# Altium footprint library BitCoin.PcbLib: 13 footprints (part 1 of 2)
Each footprint in its own frame and in the unit in brackets; x right, y up, seen from the top. Pads: shape width x height; smd on the part's side, far side on the other; paste and mask are expansions set on the pad; w line width, h text height; cw(c..) or ccw(c..) is an arc to the next point about the centre after c.
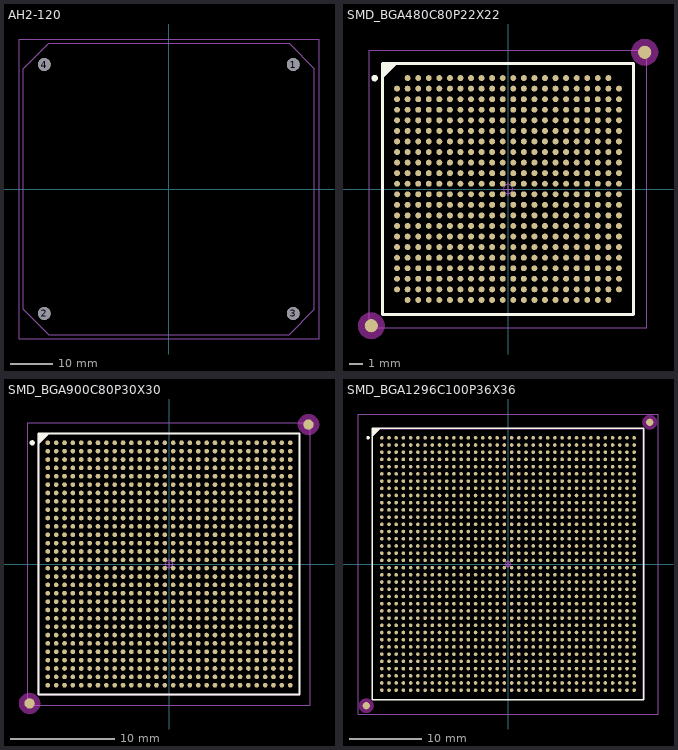
[diagram p0: the footprints below, top view; thin cyan lines are the x and y axes]

## AH2-120 [mm]
pads (4):
  round 3 / inner round 1.8 / far side round 1.8 hole 3 mask+0.075: 1(29.5,29.5) 2(-29.5,-29.5) 3(29.5,-29.5) 4(-29.5,29.5)
Top Assy:
  lines w0.1: -34.5,-28.5 -28.5,-34.5 28.5,-34.5 34.5,-28.5 34.5,28.5 28.5,34.5 -28.5,34.5 -34.5,28.5 -34.5,-28.5
Top Cortyards:
  lines w0.1: -35.5,-35.5 35.6,-35.5 35.6,35.5 -35.5,35.5 -35.5,-35.5

## SMD_BGA480C80P22X22 [mm]
height 2.59
pads (482):
  round 0.45 smd: A2(-7.6,8.4) A3(-6.8,8.4) A4(-6,8.4) A5(-5.2,8.4) A6(-4.4,8.4) A7(-3.6,8.4) A8(-2.8,8.4) A9(-2,8.4) A10(-1.2,8.4) A11(-0.4,8.4) A12(0.4,8.4) A13(1.2,8.4) A14(2,8.4) A15(2.8,8.4) A16(3.6,8.4) A17(4.4,8.4) A18(5.2,8.4) A19(6,8.4) A20(6.8,8.4) A21(7.6,8.4) AA1(-8.4,-7.6) AA2(-7.6,-7.6) AA3(-6.8,-7.6) AA4(-6,-7.6) AA5(-5.2,-7.6) AA6(-4.4,-7.6) AA7(-3.6,-7.6) AA8(-2.8,-7.6) AA9(-2,-7.6) AA10(-1.2,-7.6) AA11(-0.4,-7.6) AA12(0.4,-7.6) AA13(1.2,-7.6) AA14(2,-7.6) AA15(2.8,-7.6) AA16(3.6,-7.6) AA17(4.4,-7.6) AA18(5.2,-7.6) AA19(6,-7.6) AA20(6.8,-7.6) AA21(7.6,-7.6) AA22(8.4,-7.6) AB2(-7.6,-8.4) AB3(-6.8,-8.4) AB4(-6,-8.4) AB5(-5.2,-8.4) AB6(-4.4,-8.4) AB7(-3.6,-8.4) AB8(-2.8,-8.4) AB9(-2,-8.4) AB10(-1.2,-8.4) AB11(-0.4,-8.4) AB12(0.4,-8.4) AB13(1.2,-8.4) AB14(2,-8.4) AB15(2.8,-8.4) AB16(3.6,-8.4) AB17(4.4,-8.4) AB18(5.2,-8.4) AB19(6,-8.4) AB20(6.8,-8.4) AB21(7.6,-8.4) B1(-8.4,7.6) B2(-7.6,7.6) B3(-6.8,7.6) B4(-6,7.6) B5(-5.2,7.6) B6(-4.4,7.6) B7(-3.6,7.6) B8(-2.8,7.6) B9(-2,7.6) B10(-1.2,7.6) B11(-0.4,7.6) B12(0.4,7.6) B13(1.2,7.6) B14(2,7.6) B15(2.8,7.6) B16(3.6,7.6) B17(4.4,7.6) B18(5.2,7.6) B19(6,7.6) B20(6.8,7.6) B21(7.6,7.6) B22(8.4,7.6) C1(-8.4,6.8) C2(-7.6,6.8) C3(-6.8,6.8) C4(-6,6.8) C5(-5.2,6.8) C6(-4.4,6.8) C7(-3.6,6.8) C8(-2.8,6.8) C9(-2,6.8) C10(-1.2,6.8) C11(-0.4,6.8) C12(0.4,6.8) C13(1.2,6.8) C14(2,6.8) C15(2.8,6.8) C16(3.6,6.8) C17(4.4,6.8) C18(5.2,6.8) C19(6,6.8) C20(6.8,6.8) C21(7.6,6.8) C22(8.4,6.8) D1(-8.4,6) D2(-7.6,6) D3(-6.8,6) D4(-6,6) D5(-5.2,6) D6(-4.4,6) D7(-3.6,6) D8(-2.8,6) D9(-2,6) D10(-1.2,6) D11(-0.4,6) D12(0.4,6) D13(1.2,6) D14(2,6) D15(2.8,6) D16(3.6,6) D17(4.4,6) D18(5.2,6) D19(6,6) D20(6.8,6) D21(7.6,6) D22(8.4,6) E1(-8.4,5.2) E2(-7.6,5.2) E3(-6.8,5.2) E4(-6,5.2) E5(-5.2,5.2) E6(-4.4,5.2) E7(-3.6,5.2) E8(-2.8,5.2) E9(-2,5.2) E10(-1.2,5.2) E11(-0.4,5.2) E12(0.4,5.2) E13(1.2,5.2) E14(2,5.2) E15(2.8,5.2) E16(3.6,5.2) E17(4.4,5.2) E18(5.2,5.2) E19(6,5.2) E20(6.8,5.2) E21(7.6,5.2) E22(8.4,5.2) F1(-8.4,4.4) F2(-7.6,4.4) F3(-6.8,4.4) F4(-6,4.4) F5(-5.2,4.4) F6(-4.4,4.4) F7(-3.6,4.4) F8(-2.8,4.4) F9(-2,4.4) F10(-1.2,4.4) F11(-0.4,4.4) F12(0.4,4.4) F13(1.2,4.4) F14(2,4.4) F15(2.8,4.4) F16(3.6,4.4) F17(4.4,4.4) F18(5.2,4.4) F19(6,4.4) F20(6.8,4.4) F21(7.6,4.4) F22(8.4,4.4) G1(-8.4,3.6) G2(-7.6,3.6) G3(-6.8,3.6) G4(-6,3.6) G5(-5.2,3.6) G6(-4.4,3.6) G7(-3.6,3.6) G8(-2.8,3.6) G9(-2,3.6) G10(-1.2,3.6) G11(-0.4,3.6) G12(0.4,3.6) G13(1.2,3.6) G14(2,3.6) G15(2.8,3.6) G16(3.6,3.6) G17(4.4,3.6) G18(5.2,3.6) G19(6,3.6) G20(6.8,3.6) G21(7.6,3.6) G22(8.4,3.6) H1(-8.4,2.8) H2(-7.6,2.8) H3(-6.8,2.8) H4(-6,2.8) H5(-5.2,2.8) H6(-4.4,2.8) H7(-3.6,2.8) H8(-2.8,2.8) H9(-2,2.8) H10(-1.2,2.8) H11(-0.4,2.8) H12(0.4,2.8) H13(1.2,2.8) H14(2,2.8) H15(2.8,2.8) H16(3.6,2.8) H17(4.4,2.8) H18(5.2,2.8) H19(6,2.8) H20(6.8,2.8) H21(7.6,2.8) H22(8.4,2.8) J1(-8.4,2) J2(-7.6,2) J3(-6.8,2) J4(-6,2) J5(-5.2,2) J6(-4.4,2) J7(-3.6,2) J8(-2.8,2) J9(-2,2) J10(-1.2,2) J11(-0.4,2) J12(0.4,2) J13(1.2,2) J14(2,2) J15(2.8,2) J16(3.6,2) J17(4.4,2) J18(5.2,2) J19(6,2) J20(6.8,2) J21(7.6,2) J22(8.4,2) K1(-8.4,1.2) K2(-7.6,1.2) K3(-6.8,1.2) K4(-6,1.2) K5(-5.2,1.2) K6(-4.4,1.2) K7(-3.6,1.2) K8(-2.8,1.2) K9(-2,1.2) K10(-1.2,1.2) K11(-0.4,1.2) K12(0.4,1.2) K13(1.2,1.2) K14(2,1.2) K15(2.8,1.2) K16(3.6,1.2) K17(4.4,1.2) K18(5.2,1.2) K19(6,1.2) K20(6.8,1.2) K21(7.6,1.2) K22(8.4,1.2) L1(-8.4,0.4) L2(-7.6,0.4) L3(-6.8,0.4) L4(-6,0.4) L5(-5.2,0.4) L6(-4.4,0.4) L7(-3.6,0.4) L8(-2.8,0.4) L9(-2,0.4) L10(-1.2,0.4) L11(-0.4,0.4) L12(0.4,0.4) L13(1.2,0.4) L14(2,0.4) L15(2.8,0.4) L16(3.6,0.4) L17(4.4,0.4) L18(5.2,0.4) L19(6,0.4) L20(6.8,0.4) L21(7.6,0.4) L22(8.4,0.4) M1(-8.4,-0.4) M2(-7.6,-0.4) M3(-6.8,-0.4) M4(-6,-0.4) M5(-5.2,-0.4) M6(-4.4,-0.4) M7(-3.6,-0.4) M8(-2.8,-0.4) M9(-2,-0.4) M10(-1.2,-0.4) M11(-0.4,-0.4) M12(0.4,-0.4) M13(1.2,-0.4) M14(2,-0.4) M15(2.8,-0.4) M16(3.6,-0.4) M17(4.4,-0.4) M18(5.2,-0.4) M19(6,-0.4) M20(6.8,-0.4) M21(7.6,-0.4) M22(8.4,-0.4) N1(-8.4,-1.2) N2(-7.6,-1.2) N3(-6.8,-1.2) N4(-6,-1.2) N5(-5.2,-1.2) N6(-4.4,-1.2) N7(-3.6,-1.2) N8(-2.8,-1.2) N9(-2,-1.2) N10(-1.2,-1.2) N11(-0.4,-1.2) N12(0.4,-1.2) N13(1.2,-1.2) N14(2,-1.2) N15(2.8,-1.2) N16(3.6,-1.2) N17(4.4,-1.2) N18(5.2,-1.2) N19(6,-1.2) N20(6.8,-1.2) N21(7.6,-1.2) N22(8.4,-1.2) P1(-8.4,-2) P2(-7.6,-2) P3(-6.8,-2) P4(-6,-2) P5(-5.2,-2) P6(-4.4,-2) P7(-3.6,-2) P8(-2.8,-2) P9(-2,-2) P10(-1.2,-2) P11(-0.4,-2) P12(0.4,-2) P13(1.2,-2) P14(2,-2) P15(2.8,-2) P16(3.6,-2) P17(4.4,-2) P18(5.2,-2) P19(6,-2) P20(6.8,-2) P21(7.6,-2) P22(8.4,-2) R1(-8.4,-2.8) R2(-7.6,-2.8) R3(-6.8,-2.8) R4(-6,-2.8) R5(-5.2,-2.8) R6(-4.4,-2.8) R7(-3.6,-2.8) R8(-2.8,-2.8) R9(-2,-2.8) R10(-1.2,-2.8) R11(-0.4,-2.8) R12(0.4,-2.8) R13(1.2,-2.8) R14(2,-2.8) R15(2.8,-2.8) R16(3.6,-2.8) R17(4.4,-2.8) R18(5.2,-2.8) R19(6,-2.8) R20(6.8,-2.8) R21(7.6,-2.8) R22(8.4,-2.8) T1(-8.4,-3.6) T2(-7.6,-3.6) T3(-6.8,-3.6) T4(-6,-3.6) T5(-5.2,-3.6) T6(-4.4,-3.6) T7(-3.6,-3.6) T8(-2.8,-3.6) T9(-2,-3.6) T10(-1.2,-3.6) T11(-0.4,-3.6) T12(0.4,-3.6) T13(1.2,-3.6) T14(2,-3.6) T15(2.8,-3.6) T16(3.6,-3.6) T17(4.4,-3.6) T18(5.2,-3.6) T19(6,-3.6) T20(6.8,-3.6) T21(7.6,-3.6) T22(8.4,-3.6) U1(-8.4,-4.4) U2(-7.6,-4.4) U3(-6.8,-4.4) U4(-6,-4.4) U5(-5.2,-4.4) U6(-4.4,-4.4) U7(-3.6,-4.4) U8(-2.8,-4.4) U9(-2,-4.4) U10(-1.2,-4.4) U11(-0.4,-4.4) U12(0.4,-4.4) U13(1.2,-4.4) U14(2,-4.4) U15(2.8,-4.4) U16(3.6,-4.4) U17(4.4,-4.4) U18(5.2,-4.4) U19(6,-4.4) U20(6.8,-4.4) U21(7.6,-4.4) U22(8.4,-4.4) V1(-8.4,-5.2) V2(-7.6,-5.2) V3(-6.8,-5.2) V4(-6,-5.2) V5(-5.2,-5.2) V6(-4.4,-5.2) V7(-3.6,-5.2) V8(-2.8,-5.2) V9(-2,-5.2) V10(-1.2,-5.2) V11(-0.4,-5.2) V12(0.4,-5.2) V13(1.2,-5.2) V14(2,-5.2) V15(2.8,-5.2) V16(3.6,-5.2) V17(4.4,-5.2) V18(5.2,-5.2) V19(6,-5.2) V20(6.8,-5.2) V21(7.6,-5.2) V22(8.4,-5.2) W1(-8.4,-6) W2(-7.6,-6) W3(-6.8,-6) W4(-6,-6) W5(-5.2,-6) W6(-4.4,-6) W7(-3.6,-6) W8(-2.8,-6) W9(-2,-6) W10(-1.2,-6) W11(-0.4,-6) W12(0.4,-6) W13(1.2,-6) W14(2,-6) W15(2.8,-6) W16(3.6,-6) W17(4.4,-6) W18(5.2,-6) W19(6,-6) W20(6.8,-6) W21(7.6,-6) W22(8.4,-6) Y1(-8.4,-6.8) Y2(-7.6,-6.8) Y3(-6.8,-6.8) Y4(-6,-6.8) Y5(-5.2,-6.8) Y6(-4.4,-6.8) Y7(-3.6,-6.8) Y8(-2.8,-6.8) Y9(-2,-6.8) Y10(-1.2,-6.8) Y11(-0.4,-6.8) Y12(0.4,-6.8) Y13(1.2,-6.8) Y14(2,-6.8) Y15(2.8,-6.8) Y16(3.6,-6.8) Y17(4.4,-6.8) Y18(5.2,-6.8) Y19(6,-6.8) Y20(6.8,-6.8) Y21(7.6,-6.8) Y22(8.4,-6.8)
  round 1 smd mask+0.5: FID1(-10.35,-10.35) FID2(10.35,10.35)
Top Layer keep-out:
  region: -9.341,-10.35 -9.376,-10.089 -9.477,-9.846 -9.637,-9.637 -9.846,-9.477 -10.089,-9.376 -10.35,-9.341 -10.611,-9.376 -10.854,-9.477 -11.063,-9.637 -11.223,-9.846 -11.324,-10.089 -11.359,-10.35 -11.324,-10.611 -11.223,-10.854 -11.063,-11.063 -10.854,-11.223 -10.611,-11.324 -10.35,-11.359 -10.089,-11.324 -9.846,-11.223 -9.637,-11.063 -9.477,-10.854 -9.376,-10.611
  region: 11.359,10.35 11.324,10.611 11.223,10.854 11.063,11.063 10.854,11.223 10.611,11.324 10.35,11.359 10.089,11.324 9.846,11.223 9.637,11.063 9.477,10.854 9.376,10.611 9.341,10.35 9.376,10.089 9.477,9.846 9.637,9.637 9.846,9.477 10.089,9.376 10.35,9.341 10.611,9.376 10.854,9.477 11.063,9.637 11.223,9.846 11.324,10.089
Top Overlay:
  circle w0.25: c-10.1,8.4 r0.125
  lines w0.2: -9.5,8.5 -8.5,9.5 ; -9.5,8.7 -8.7,9.5 ; -9.5,8.9 -8.9,9.5 ; -9.5,9.1 -9.1,9.5 ; -9.5,9.3 -9.3,9.5 ; -9.5,-9.5 -9.5,9.5 9.5,9.5 9.5,-9.5 -9.5,-9.5
Top Assy:
  lines w0.1: -9.5,8.5 -8.5,9.5 ; -9.5,8.6 -8.6,9.5 ; -9.5,8.7 -8.7,9.5 ; -9.5,8.8 -8.8,9.5 ; -9.5,8.9 -8.9,9.5 ; -9.5,9 -9,9.5 ; -9.5,9.1 -9.1,9.5 ; -9.5,9.2 -9.2,9.5 ; -9.5,9.3 -9.3,9.5 ; -9.5,9.4 -9.4,9.5 ; -9.5,-9.5 -9.5,9.5 9.5,9.5 9.5,-9.5 -9.5,-9.5
  text ".Designator" at 0,0 h1
Top 3D:
  lines w0.05: -9.5,-9.5 -9.5,9.5 9.5,9.5 9.5,-9.5 -9.5,-9.5
Top Cortyards:
  circle w0.05: c0,0 r0.35
  lines w0.05: -0.5,0 0.5,0 ; 0,-0.5 0,0.5 ; -10.5,-10.5 -10.5,10.5 10.5,10.5 10.5,-10.5 -10.5,-10.5
3D body: height 2.59, standoff 0, extent -9.499,-9.499 9.499,9.499

## SMD_BGA900C80P30X30 [mm]
height 2.4
pads (902):
  round 0.45 smd mask+0.05: A1(-11.6,11.6) A2(-10.8,11.6) A3(-10,11.6) A4(-9.2,11.6) A5(-8.4,11.6) A6(-7.6,11.6) A7(-6.8,11.6) A8(-6,11.6) A9(-5.2,11.6) A10(-4.4,11.6) A11(-3.6,11.6) A12(-2.8,11.6) A13(-2,11.6) A14(-1.2,11.6) A15(-0.4,11.6) A16(0.4,11.6) A17(1.2,11.6) A18(2,11.6) A19(2.8,11.6) A20(3.6,11.6) A21(4.4,11.6) A22(5.2,11.6) A23(6,11.6) A24(6.8,11.6) A25(7.6,11.6) A26(8.4,11.6) A27(9.2,11.6) A28(10,11.6) A29(10.8,11.6) A30(11.6,11.6) AA1(-11.6,-4.4) AA2(-10.8,-4.4) AA3(-10,-4.4) AA4(-9.2,-4.4) AA5(-8.4,-4.4) AA6(-7.6,-4.4) AA7(-6.8,-4.4) AA8(-6,-4.4) AA9(-5.2,-4.4) AA10(-4.4,-4.4) AA11(-3.6,-4.4) AA12(-2.8,-4.4) AA13(-2,-4.4) AA14(-1.2,-4.4) AA15(-0.4,-4.4) AA16(0.4,-4.4) AA17(1.2,-4.4) AA18(2,-4.4) AA19(2.8,-4.4) AA20(3.6,-4.4) AA21(4.4,-4.4) AA22(5.2,-4.4) AA23(6,-4.4) AA24(6.8,-4.4) AA25(7.6,-4.4) AA26(8.4,-4.4) AA27(9.2,-4.4) AA28(10,-4.4) AA29(10.8,-4.4) AA30(11.6,-4.4) AB1(-11.6,-5.2) AB2(-10.8,-5.2) AB3(-10,-5.2) AB4(-9.2,-5.2) AB5(-8.4,-5.2) AB6(-7.6,-5.2) AB7(-6.8,-5.2) AB8(-6,-5.2) AB9(-5.2,-5.2) AB10(-4.4,-5.2) AB11(-3.6,-5.2) AB12(-2.8,-5.2) AB13(-2,-5.2) AB14(-1.2,-5.2) AB15(-0.4,-5.2) AB16(0.4,-5.2) AB17(1.2,-5.2) AB18(2,-5.2) AB19(2.8,-5.2) AB20(3.6,-5.2) AB21(4.4,-5.2) AB22(5.2,-5.2) AB23(6,-5.2) AB24(6.8,-5.2) AB25(7.6,-5.2) AB26(8.4,-5.2) AB27(9.2,-5.2) AB28(10,-5.2) AB29(10.8,-5.2) AB30(11.6,-5.2) AC1(-11.6,-6) AC2(-10.8,-6) AC3(-10,-6) AC4(-9.2,-6) AC5(-8.4,-6) AC6(-7.6,-6) AC7(-6.8,-6) AC8(-6,-6) AC9(-5.2,-6) AC10(-4.4,-6) AC11(-3.6,-6) AC12(-2.8,-6) AC13(-2,-6) AC14(-1.2,-6) AC15(-0.4,-6) AC16(0.4,-6) AC17(1.2,-6) AC18(2,-6) AC19(2.8,-6) AC20(3.6,-6) AC21(4.4,-6) AC22(5.2,-6) AC23(6,-6) AC24(6.8,-6) AC25(7.6,-6) AC26(8.4,-6) AC27(9.2,-6) AC28(10,-6) AC29(10.8,-6) AC30(11.6,-6) AD1(-11.6,-6.8) AD2(-10.8,-6.8) AD3(-10,-6.8) AD4(-9.2,-6.8) AD5(-8.4,-6.8) AD6(-7.6,-6.8) AD7(-6.8,-6.8) AD8(-6,-6.8) AD9(-5.2,-6.8) AD10(-4.4,-6.8) AD11(-3.6,-6.8) AD12(-2.8,-6.8) AD13(-2,-6.8) AD14(-1.2,-6.8) AD15(-0.4,-6.8) AD16(0.4,-6.8) AD17(1.2,-6.8) AD18(2,-6.8) AD19(2.8,-6.8) AD20(3.6,-6.8) AD21(4.4,-6.8) AD22(5.2,-6.8) AD23(6,-6.8) AD24(6.8,-6.8) AD25(7.6,-6.8) AD26(8.4,-6.8) AD27(9.2,-6.8) AD28(10,-6.8) AD29(10.8,-6.8) AD30(11.6,-6.8) AE1(-11.6,-7.6) AE2(-10.8,-7.6) AE3(-10,-7.6) AE4(-9.2,-7.6) AE5(-8.4,-7.6) AE6(-7.6,-7.6) AE7(-6.8,-7.6) AE8(-6,-7.6) AE9(-5.2,-7.6) AE10(-4.4,-7.6) AE11(-3.6,-7.6) AE12(-2.8,-7.6) AE13(-2,-7.6) AE14(-1.2,-7.6) AE15(-0.4,-7.6) AE16(0.4,-7.6) AE17(1.2,-7.6) AE18(2,-7.6) AE19(2.8,-7.6) AE20(3.6,-7.6) AE21(4.4,-7.6) AE22(5.2,-7.6) AE23(6,-7.6) AE24(6.8,-7.6) AE25(7.6,-7.6) AE26(8.4,-7.6) AE27(9.2,-7.6) AE28(10,-7.6) AE29(10.8,-7.6) AE30(11.6,-7.6) AF1(-11.6,-8.4) AF2(-10.8,-8.4) AF3(-10,-8.4) AF4(-9.2,-8.4) AF5(-8.4,-8.4) AF6(-7.6,-8.4) AF7(-6.8,-8.4) AF8(-6,-8.4) AF9(-5.2,-8.4) AF10(-4.4,-8.4) AF11(-3.6,-8.4) AF12(-2.8,-8.4) AF13(-2,-8.4) AF14(-1.2,-8.4) AF15(-0.4,-8.4) AF16(0.4,-8.4) AF17(1.2,-8.4) AF18(2,-8.4) AF19(2.8,-8.4) AF20(3.6,-8.4) AF21(4.4,-8.4) AF22(5.2,-8.4) AF23(6,-8.4) AF24(6.8,-8.4) AF25(7.6,-8.4) AF26(8.4,-8.4) AF27(9.2,-8.4) AF28(10,-8.4) AF29(10.8,-8.4) AF30(11.6,-8.4) AG1(-11.6,-9.2) AG2(-10.8,-9.2) AG3(-10,-9.2) AG4(-9.2,-9.2) AG5(-8.4,-9.2) AG6(-7.6,-9.2) AG7(-6.8,-9.2) AG8(-6,-9.2) AG9(-5.2,-9.2) AG10(-4.4,-9.2) AG11(-3.6,-9.2) AG12(-2.8,-9.2) AG13(-2,-9.2) AG14(-1.2,-9.2) AG15(-0.4,-9.2) AG16(0.4,-9.2) AG17(1.2,-9.2) AG18(2,-9.2) AG19(2.8,-9.2) AG20(3.6,-9.2) AG21(4.4,-9.2) AG22(5.2,-9.2) AG23(6,-9.2) AG24(6.8,-9.2) AG25(7.6,-9.2) AG26(8.4,-9.2) AG27(9.2,-9.2) AG28(10,-9.2) AG29(10.8,-9.2) AG30(11.6,-9.2) AH1(-11.6,-10) AH2(-10.8,-10) AH3(-10,-10) AH4(-9.2,-10) AH5(-8.4,-10) AH6(-7.6,-10) AH7(-6.8,-10) AH8(-6,-10) AH9(-5.2,-10) AH10(-4.4,-10) AH11(-3.6,-10) AH12(-2.8,-10) AH13(-2,-10) AH14(-1.2,-10) AH15(-0.4,-10) AH16(0.4,-10) AH17(1.2,-10) AH18(2,-10) AH19(2.8,-10) AH20(3.6,-10) AH21(4.4,-10) AH22(5.2,-10) AH23(6,-10) AH24(6.8,-10) AH25(7.6,-10) AH26(8.4,-10) AH27(9.2,-10) AH28(10,-10) AH29(10.8,-10) AH30(11.6,-10) AJ1(-11.6,-10.8) AJ2(-10.8,-10.8) AJ3(-10,-10.8) AJ4(-9.2,-10.8) AJ5(-8.4,-10.8) AJ6(-7.6,-10.8) AJ7(-6.8,-10.8) AJ8(-6,-10.8) AJ9(-5.2,-10.8) AJ10(-4.4,-10.8) AJ11(-3.6,-10.8) AJ12(-2.8,-10.8) AJ13(-2,-10.8) AJ14(-1.2,-10.8) AJ15(-0.4,-10.8) AJ16(0.4,-10.8) AJ17(1.2,-10.8) AJ18(2,-10.8) AJ19(2.8,-10.8) AJ20(3.6,-10.8) AJ21(4.4,-10.8) AJ22(5.2,-10.8) AJ23(6,-10.8) AJ24(6.8,-10.8) AJ25(7.6,-10.8) AJ26(8.4,-10.8) AJ27(9.2,-10.8) AJ28(10,-10.8) AJ29(10.8,-10.8) AJ30(11.6,-10.8) AK1(-11.6,-11.6) AK2(-10.8,-11.6) AK3(-10,-11.6) AK4(-9.2,-11.6) AK5(-8.4,-11.6) AK6(-7.6,-11.6) AK7(-6.8,-11.6) AK8(-6,-11.6) AK9(-5.2,-11.6) AK10(-4.4,-11.6) AK11(-3.6,-11.6) AK12(-2.8,-11.6) AK13(-2,-11.6) AK14(-1.2,-11.6) AK15(-0.4,-11.6) AK16(0.4,-11.6) AK17(1.2,-11.6) AK18(2,-11.6) AK19(2.8,-11.6) AK20(3.6,-11.6) AK21(4.4,-11.6) AK22(5.2,-11.6) AK23(6,-11.6) AK24(6.8,-11.6) AK25(7.6,-11.6) AK26(8.4,-11.6) AK27(9.2,-11.6) AK28(10,-11.6) AK29(10.8,-11.6) AK30(11.6,-11.6) B1(-11.6,10.8) B2(-10.8,10.8) B3(-10,10.8) B4(-9.2,10.8) B5(-8.4,10.8) B6(-7.6,10.8) B7(-6.8,10.8) B8(-6,10.8) B9(-5.2,10.8) B10(-4.4,10.8) B11(-3.6,10.8) B12(-2.8,10.8) B13(-2,10.8) B14(-1.2,10.8) B15(-0.4,10.8) B16(0.4,10.8) B17(1.2,10.8) B18(2,10.8) B19(2.8,10.8) B20(3.6,10.8) B21(4.4,10.8) B22(5.2,10.8) B23(6,10.8) B24(6.8,10.8) B25(7.6,10.8) B26(8.4,10.8) B27(9.2,10.8) B28(10,10.8) B29(10.8,10.8) B30(11.6,10.8) C1(-11.6,10) C2(-10.8,10) C3(-10,10) C4(-9.2,10) C5(-8.4,10) C6(-7.6,10) C7(-6.8,10) C8(-6,10) C9(-5.2,10) C10(-4.4,10) C11(-3.6,10) C12(-2.8,10) C13(-2,10) C14(-1.2,10) C15(-0.4,10) C16(0.4,10) C17(1.2,10) C18(2,10) C19(2.8,10) C20(3.6,10) C21(4.4,10) C22(5.2,10) C23(6,10) C24(6.8,10) C25(7.6,10) C26(8.4,10) C27(9.2,10) C28(10,10) C29(10.8,10) C30(11.6,10) D1(-11.6,9.2) D2(-10.8,9.2) D3(-10,9.2) D4(-9.2,9.2) D5(-8.4,9.2) D6(-7.6,9.2) D7(-6.8,9.2) D8(-6,9.2) D9(-5.2,9.2) D10(-4.4,9.2) D11(-3.6,9.2) D12(-2.8,9.2) D13(-2,9.2) D14(-1.2,9.2) D15(-0.4,9.2) D16(0.4,9.2) D17(1.2,9.2) D18(2,9.2) D19(2.8,9.2) D20(3.6,9.2) D21(4.4,9.2) D22(5.2,9.2) D23(6,9.2) D24(6.8,9.2) D25(7.6,9.2) D26(8.4,9.2) D27(9.2,9.2) D28(10,9.2) D29(10.8,9.2) D30(11.6,9.2) E1(-11.6,8.4) E2(-10.8,8.4) E3(-10,8.4) E4(-9.2,8.4) E5(-8.4,8.4) E6(-7.6,8.4) E7(-6.8,8.4) E8(-6,8.4) E9(-5.2,8.4) E10(-4.4,8.4) E11(-3.6,8.4) E12(-2.8,8.4) E13(-2,8.4) E14(-1.2,8.4) E15(-0.4,8.4) E16(0.4,8.4) E17(1.2,8.4) E18(2,8.4) E19(2.8,8.4) E20(3.6,8.4) E21(4.4,8.4) E22(5.2,8.4) E23(6,8.4) E24(6.8,8.4) E25(7.6,8.4) E26(8.4,8.4) E27(9.2,8.4) E28(10,8.4) E29(10.8,8.4) E30(11.6,8.4) F1(-11.6,7.6) F2(-10.8,7.6) F3(-10,7.6) F4(-9.2,7.6) F5(-8.4,7.6) F6(-7.6,7.6) F7(-6.8,7.6) F8(-6,7.6) F9(-5.2,7.6) F10(-4.4,7.6) F11(-3.6,7.6) F12(-2.8,7.6) F13(-2,7.6) F14(-1.2,7.6) F15(-0.4,7.6) F16(0.4,7.6) F17(1.2,7.6) F18(2,7.6) F19(2.8,7.6) F20(3.6,7.6) F21(4.4,7.6) F22(5.2,7.6) F23(6,7.6) F24(6.8,7.6) F25(7.6,7.6) F26(8.4,7.6) F27(9.2,7.6) F28(10,7.6) F29(10.8,7.6) F30(11.6,7.6) G1(-11.6,6.8) G2(-10.8,6.8) G3(-10,6.8) G4(-9.2,6.8) G5(-8.4,6.8) G6(-7.6,6.8) G7(-6.8,6.8) G8(-6,6.8) G9(-5.2,6.8) G10(-4.4,6.8) G11(-3.6,6.8) G12(-2.8,6.8) G13(-2,6.8) G14(-1.2,6.8) G15(-0.4,6.8) G16(0.4,6.8) G17(1.2,6.8) G18(2,6.8) G19(2.8,6.8) G20(3.6,6.8) G21(4.4,6.8) G22(5.2,6.8) G23(6,6.8) G24(6.8,6.8) G25(7.6,6.8) G26(8.4,6.8) G27(9.2,6.8) G28(10,6.8) G29(10.8,6.8) G30(11.6,6.8) H1(-11.6,6) H2(-10.8,6) H3(-10,6) H4(-9.2,6) H5(-8.4,6) H6(-7.6,6) H7(-6.8,6) H8(-6,6) H9(-5.2,6) H10(-4.4,6) H11(-3.6,6) H12(-2.8,6) H13(-2,6) H14(-1.2,6) H15(-0.4,6) H16(0.4,6) H17(1.2,6) H18(2,6) H19(2.8,6) H20(3.6,6) H21(4.4,6) H22(5.2,6) H23(6,6) H24(6.8,6) H25(7.6,6) H26(8.4,6) H27(9.2,6) H28(10,6) H29(10.8,6) H30(11.6,6) J1(-11.6,5.2) J2(-10.8,5.2) J3(-10,5.2) J4(-9.2,5.2) J5(-8.4,5.2) J6(-7.6,5.2) J7(-6.8,5.2) J8(-6,5.2) J9(-5.2,5.2) J10(-4.4,5.2) J11(-3.6,5.2) J12(-2.8,5.2) J13(-2,5.2) J14(-1.2,5.2) J15(-0.4,5.2) J16(0.4,5.2) J17(1.2,5.2) J18(2,5.2) J19(2.8,5.2) J20(3.6,5.2) J21(4.4,5.2) J22(5.2,5.2) J23(6,5.2) J24(6.8,5.2) J25(7.6,5.2) J26(8.4,5.2) J27(9.2,5.2) J28(10,5.2) J29(10.8,5.2) J30(11.6,5.2) K1(-11.6,4.4) K2(-10.8,4.4) K3(-10,4.4) K4(-9.2,4.4) K5(-8.4,4.4) K6(-7.6,4.4) K7(-6.8,4.4) K8(-6,4.4) K9(-5.2,4.4) K10(-4.4,4.4) K11(-3.6,4.4) K12(-2.8,4.4) K13(-2,4.4) K14(-1.2,4.4) K15(-0.4,4.4) K16(0.4,4.4) K17(1.2,4.4) K18(2,4.4) K19(2.8,4.4) K20(3.6,4.4) K21(4.4,4.4) K22(5.2,4.4) K23(6,4.4) K24(6.8,4.4) K25(7.6,4.4) K26(8.4,4.4) K27(9.2,4.4) K28(10,4.4) K29(10.8,4.4) K30(11.6,4.4) L1(-11.6,3.6) L2(-10.8,3.6) L3(-10,3.6) L4(-9.2,3.6) L5(-8.4,3.6) L6(-7.6,3.6) L7(-6.8,3.6) L8(-6,3.6) L9(-5.2,3.6) L10(-4.4,3.6) L11(-3.6,3.6) L12(-2.8,3.6) L13(-2,3.6) L14(-1.2,3.6) L15(-0.4,3.6) L16(0.4,3.6) L17(1.2,3.6) L18(2,3.6) L19(2.8,3.6) L20(3.6,3.6) L21(4.4,3.6) L22(5.2,3.6) L23(6,3.6) L24(6.8,3.6) L25(7.6,3.6) L26(8.4,3.6) L27(9.2,3.6) L28(10,3.6) L29(10.8,3.6) L30(11.6,3.6) M1(-11.6,2.8) M2(-10.8,2.8) M3(-10,2.8) M4(-9.2,2.8) M5(-8.4,2.8) M6(-7.6,2.8) M7(-6.8,2.8) M8(-6,2.8) M9(-5.2,2.8) M10(-4.4,2.8) M11(-3.6,2.8) M12(-2.8,2.8) M13(-2,2.8) M14(-1.2,2.8) M15(-0.4,2.8) M16(0.4,2.8) M17(1.2,2.8) M18(2,2.8) M19(2.8,2.8) M20(3.6,2.8) M21(4.4,2.8) M22(5.2,2.8) M23(6,2.8) M24(6.8,2.8) M25(7.6,2.8) M26(8.4,2.8) M27(9.2,2.8) M28(10,2.8) M29(10.8,2.8) M30(11.6,2.8) N1(-11.6,2) N2(-10.8,2) N3(-10,2) N4(-9.2,2) N5(-8.4,2) N6(-7.6,2) N7(-6.8,2) N8(-6,2) N9(-5.2,2) N10(-4.4,2) N11(-3.6,2) N12(-2.8,2) N13(-2,2) N14(-1.2,2) N15(-0.4,2) N16(0.4,2) N17(1.2,2) N18(2,2) N19(2.8,2) N20(3.6,2) N21(4.4,2) N22(5.2,2) N23(6,2) N24(6.8,2) N25(7.6,2) N26(8.4,2) N27(9.2,2) N28(10,2) N29(10.8,2) N30(11.6,2) P1(-11.6,1.2) P2(-10.8,1.2) P3(-10,1.2) P4(-9.2,1.2) P5(-8.4,1.2) P6(-7.6,1.2) P7(-6.8,1.2) P8(-6,1.2) P9(-5.2,1.2) P10(-4.4,1.2) P11(-3.6,1.2) P12(-2.8,1.2) P13(-2,1.2) P14(-1.2,1.2) P15(-0.4,1.2) P16(0.4,1.2) P17(1.2,1.2) P18(2,1.2) P19(2.8,1.2) P20(3.6,1.2) P21(4.4,1.2) P22(5.2,1.2) P23(6,1.2) P24(6.8,1.2) P25(7.6,1.2) P26(8.4,1.2) P27(9.2,1.2) P28(10,1.2) P29(10.8,1.2) P30(11.6,1.2) R1(-11.6,0.4) R2(-10.8,0.4) R3(-10,0.4) R4(-9.2,0.4) R5(-8.4,0.4) R6(-7.6,0.4) R7(-6.8,0.4) R8(-6,0.4) R9(-5.2,0.4) R10(-4.4,0.4) R11(-3.6,0.4) R12(-2.8,0.4) R13(-2,0.4) R14(-1.2,0.4) R15(-0.4,0.4) R16(0.4,0.4) R17(1.2,0.4) R18(2,0.4) R19(2.8,0.4) R20(3.6,0.4) R21(4.4,0.4) R22(5.2,0.4) R23(6,0.4) R24(6.8,0.4) R25(7.6,0.4) R26(8.4,0.4) R27(9.2,0.4) R28(10,0.4) R29(10.8,0.4) R30(11.6,0.4) T1(-11.6,-0.4) T2(-10.8,-0.4) T3(-10,-0.4) T4(-9.2,-0.4) T5(-8.4,-0.4) T6(-7.6,-0.4) T7(-6.8,-0.4) T8(-6,-0.4) T9(-5.2,-0.4) T10(-4.4,-0.4) T11(-3.6,-0.4) T12(-2.8,-0.4) T13(-2,-0.4) T14(-1.2,-0.4) T15(-0.4,-0.4) T16(0.4,-0.4) T17(1.2,-0.4) T18(2,-0.4) T19(2.8,-0.4) T20(3.6,-0.4) T21(4.4,-0.4) T22(5.2,-0.4) T23(6,-0.4) T24(6.8,-0.4) T25(7.6,-0.4) T26(8.4,-0.4) T27(9.2,-0.4) T28(10,-0.4) T29(10.8,-0.4) T30(11.6,-0.4) U1(-11.6,-1.2) U2(-10.8,-1.2) U3(-10,-1.2) U4(-9.2,-1.2) U5(-8.4,-1.2) U6(-7.6,-1.2) U7(-6.8,-1.2) U8(-6,-1.2) U9(-5.2,-1.2) U10(-4.4,-1.2) U11(-3.6,-1.2) U12(-2.8,-1.2) U13(-2,-1.2) U14(-1.2,-1.2) U15(-0.4,-1.2) U16(0.4,-1.2) U17(1.2,-1.2) U18(2,-1.2) U19(2.8,-1.2) U20(3.6,-1.2) U21(4.4,-1.2) U22(5.2,-1.2) U23(6,-1.2) U24(6.8,-1.2) U25(7.6,-1.2) U26(8.4,-1.2) U27(9.2,-1.2) U28(10,-1.2) U29(10.8,-1.2) U30(11.6,-1.2) V1(-11.6,-2) V2(-10.8,-2) V3(-10,-2) V4(-9.2,-2) V5(-8.4,-2) V6(-7.6,-2) V7(-6.8,-2) V8(-6,-2) V9(-5.2,-2) V10(-4.4,-2) V11(-3.6,-2) V12(-2.8,-2) V13(-2,-2) V14(-1.2,-2) V15(-0.4,-2) V16(0.4,-2) V17(1.2,-2) V18(2,-2) V19(2.8,-2) V20(3.6,-2) V21(4.4,-2) V22(5.2,-2) V23(6,-2) V24(6.8,-2) V25(7.6,-2) V26(8.4,-2) V27(9.2,-2) V28(10,-2) V29(10.8,-2) V30(11.6,-2) W1(-11.6,-2.8) W2(-10.8,-2.8) W3(-10,-2.8) W4(-9.2,-2.8) W5(-8.4,-2.8) W6(-7.6,-2.8) W7(-6.8,-2.8) W8(-6,-2.8) W9(-5.2,-2.8) W10(-4.4,-2.8) W11(-3.6,-2.8) W12(-2.8,-2.8) W13(-2,-2.8) W14(-1.2,-2.8) W15(-0.4,-2.8) W16(0.4,-2.8) W17(1.2,-2.8) W18(2,-2.8) W19(2.8,-2.8) W20(3.6,-2.8) W21(4.4,-2.8) W22(5.2,-2.8) W23(6,-2.8) W24(6.8,-2.8) W25(7.6,-2.8) W26(8.4,-2.8) W27(9.2,-2.8) W28(10,-2.8) W29(10.8,-2.8) W30(11.6,-2.8) Y1(-11.6,-3.6) Y2(-10.8,-3.6) Y3(-10,-3.6) Y4(-9.2,-3.6) Y5(-8.4,-3.6) Y6(-7.6,-3.6) Y7(-6.8,-3.6) Y8(-6,-3.6) Y9(-5.2,-3.6) Y10(-4.4,-3.6) Y11(-3.6,-3.6) Y12(-2.8,-3.6) Y13(-2,-3.6) Y14(-1.2,-3.6) Y15(-0.4,-3.6) Y16(0.4,-3.6) Y17(1.2,-3.6) Y18(2,-3.6) Y19(2.8,-3.6) Y20(3.6,-3.6) Y21(4.4,-3.6) Y22(5.2,-3.6) Y23(6,-3.6) Y24(6.8,-3.6) Y25(7.6,-3.6) Y26(8.4,-3.6) Y27(9.2,-3.6) Y28(10,-3.6) Y29(10.8,-3.6) Y30(11.6,-3.6)
  round 1 smd mask+0.5: FID1(-13.35,-13.35) FID2(13.35,13.35)
Top Layer keep-out:
  region: -12.341,-13.35 -12.376,-13.089 -12.477,-12.846 -12.637,-12.637 -12.846,-12.477 -13.089,-12.376 -13.35,-12.341 -13.611,-12.376 -13.854,-12.477 -14.063,-12.637 -14.223,-12.846 -14.324,-13.089 -14.359,-13.35 -14.324,-13.611 -14.223,-13.854 -14.063,-14.063 -13.854,-14.223 -13.611,-14.324 -13.35,-14.359 -13.089,-14.324 -12.846,-14.223 -12.637,-14.063 -12.477,-13.854 -12.376,-13.611
  region: 14.359,13.35 14.324,13.611 14.223,13.854 14.063,14.063 13.854,14.223 13.611,14.324 13.35,14.359 13.089,14.324 12.846,14.223 12.637,14.063 12.477,13.854 12.376,13.611 12.341,13.35 12.376,13.089 12.477,12.846 12.637,12.637 12.846,12.477 13.089,12.376 13.35,12.341 13.611,12.376 13.854,12.477 14.063,12.637 14.223,12.846 14.324,13.089
Top Overlay:
  circle w0.25: c-13.1,11.6 r0.125
  lines w0.2: -12.5,11.5 -11.5,12.5 ; -12.5,11.7 -11.7,12.5 ; -12.5,11.9 -11.9,12.5 ; -12.5,12.1 -12.1,12.5 ; -12.5,12.3 -12.3,12.5 ; -12.5,-12.5 -12.5,12.5 12.5,12.5 12.5,-12.5 -12.5,-12.5
Top Solder:
  lines w0.2: -12.6,-9.8 -12.6,-12.6 -9.8,-12.6 ; -12.6,9.8 -12.6,12.6 -9.8,12.6 ; 9.8,-12.6 12.6,-12.6 12.6,-9.8 ; 9.8,12.6 12.6,12.6 12.6,9.8
Top Assy:
  lines w0.1: -12.5,11.5 -11.5,12.5 ; -12.5,11.6 -11.6,12.5 ; -12.5,11.7 -11.7,12.5 ; -12.5,11.8 -11.8,12.5 ; -12.5,11.9 -11.9,12.5 ; -12.5,12 -12,12.5 ; -12.5,12.1 -12.1,12.5 ; -12.5,12.2 -12.2,12.5 ; -12.5,12.3 -12.3,12.5 ; -12.5,12.4 -12.4,12.5 ; -12.5,-12.5 -12.5,12.5 12.5,12.5 12.5,-12.5 -12.5,-12.5
Top 3D:
  lines w0.05: -12.5,-12.5 -12.5,12.5 12.5,12.5 12.5,-12.5 -12.5,-12.5
Top Cortyards:
  circle w0.1: c0,0 r0.35
  lines w0.1: -0.5,0 0.5,0 ; 0,-0.5 0,0.5 ; -13.5,-13.5 -13.5,13.5 13.5,13.5 13.5,-13.5 -13.5,-13.5
3D body: height 2.4, standoff 0, extent -12.499,-12.499 12.499,12.499

## SMD_BGA1296C100P36X36 [mm]
height 2.68
pads (1298):
  round 0.5 smd paste+0.05 mask+0.05: A1(-17.5,17.5) A2(-16.5,17.5) A3(-15.5,17.5) A4(-14.5,17.5) A5(-13.5,17.5) A6(-12.5,17.5) A7(-11.5,17.5) A8(-10.5,17.5) A9(-9.5,17.5) A10(-8.5,17.5) A11(-7.5,17.5) A12(-6.5,17.5) A13(-5.5,17.5) A14(-4.5,17.5) A15(-3.5,17.5) A16(-2.5,17.5) A17(-1.5,17.5) A18(-0.5,17.5) A19(0.5,17.5) A20(1.5,17.5) A21(2.5,17.5) A22(3.5,17.5) A23(4.5,17.5) A24(5.5,17.5) A25(6.5,17.5) A26(7.5,17.5) A27(8.5,17.5) A28(9.5,17.5) A29(10.5,17.5) A30(11.5,17.5) A31(12.5,17.5) A32(13.5,17.5) A33(14.5,17.5) A34(15.5,17.5) A35(16.5,17.5) A36(17.5,17.5) AA1(-17.5,-2.5) AA2(-16.5,-2.5) AA3(-15.5,-2.5) AA4(-14.5,-2.5) AA5(-13.5,-2.5) AA6(-12.5,-2.5) AA7(-11.5,-2.5) AA8(-10.5,-2.5) AA9(-9.5,-2.5) AA10(-8.5,-2.5) AA11(-7.5,-2.5) AA12(-6.5,-2.5) AA13(-5.5,-2.5) AA14(-4.5,-2.5) AA15(-3.5,-2.5) AA16(-2.5,-2.5) AA17(-1.5,-2.5) AA18(-0.5,-2.5) AA19(0.5,-2.5) AA20(1.5,-2.5) AA21(2.5,-2.5) AA22(3.5,-2.5) AA23(4.5,-2.5) AA24(5.5,-2.5) AA25(6.5,-2.5) AA26(7.5,-2.5) AA27(8.5,-2.5) AA28(9.5,-2.5) AA29(10.5,-2.5) AA30(11.5,-2.5) AA31(12.5,-2.5) AA32(13.5,-2.5) AA33(14.5,-2.5) AA34(15.5,-2.5) AA35(16.5,-2.5) AA36(17.5,-2.5) AB1(-17.5,-3.5) AB2(-16.5,-3.5) AB3(-15.5,-3.5) AB4(-14.5,-3.5) AB5(-13.5,-3.5) AB6(-12.5,-3.5) AB7(-11.5,-3.5) AB8(-10.5,-3.5) AB9(-9.5,-3.5) AB10(-8.5,-3.5) AB11(-7.5,-3.5) AB12(-6.5,-3.5) AB13(-5.5,-3.5) AB14(-4.5,-3.5) AB15(-3.5,-3.5) AB16(-2.5,-3.5) AB17(-1.5,-3.5) AB18(-0.5,-3.5) AB19(0.5,-3.5) AB20(1.5,-3.5) AB21(2.5,-3.5) AB22(3.5,-3.5) AB23(4.5,-3.5) AB24(5.5,-3.5) AB25(6.5,-3.5) AB26(7.5,-3.5) AB27(8.5,-3.5) AB28(9.5,-3.5) AB29(10.5,-3.5) AB30(11.5,-3.5) AB31(12.5,-3.5) AB32(13.5,-3.5) AB33(14.5,-3.5) AB34(15.5,-3.5) AB35(16.5,-3.5) AB36(17.5,-3.5) AC1(-17.5,-4.5) AC2(-16.5,-4.5) AC3(-15.5,-4.5) AC4(-14.5,-4.5) AC5(-13.5,-4.5) AC6(-12.5,-4.5) AC7(-11.5,-4.5) AC8(-10.5,-4.5) AC9(-9.5,-4.5) AC10(-8.5,-4.5) AC11(-7.5,-4.5) AC12(-6.5,-4.5) AC13(-5.5,-4.5) AC14(-4.5,-4.5) AC15(-3.5,-4.5) AC16(-2.5,-4.5) AC17(-1.5,-4.5) AC18(-0.5,-4.5) AC19(0.5,-4.5) AC20(1.5,-4.5) AC21(2.5,-4.5) AC22(3.5,-4.5) AC23(4.5,-4.5) AC24(5.5,-4.5) AC25(6.5,-4.5) AC26(7.5,-4.5) AC27(8.5,-4.5) AC28(9.5,-4.5) AC29(10.5,-4.5) AC30(11.5,-4.5) AC31(12.5,-4.5) AC32(13.5,-4.5) AC33(14.5,-4.5) AC34(15.5,-4.5) AC35(16.5,-4.5) AC36(17.5,-4.5) AD1(-17.5,-5.5) AD2(-16.5,-5.5) AD3(-15.5,-5.5) AD4(-14.5,-5.5) AD5(-13.5,-5.5) AD6(-12.5,-5.5) AD7(-11.5,-5.5) AD8(-10.5,-5.5) AD9(-9.5,-5.5) AD10(-8.5,-5.5) AD11(-7.5,-5.5) AD12(-6.5,-5.5) AD13(-5.5,-5.5) AD14(-4.5,-5.5) AD15(-3.5,-5.5) AD16(-2.5,-5.5) AD17(-1.5,-5.5) AD18(-0.5,-5.5) AD19(0.5,-5.5) AD20(1.5,-5.5) AD21(2.5,-5.5) AD22(3.5,-5.5) AD23(4.5,-5.5) AD24(5.5,-5.5) AD25(6.5,-5.5) AD26(7.5,-5.5) AD27(8.5,-5.5) AD28(9.5,-5.5) AD29(10.5,-5.5) AD30(11.5,-5.5) AD31(12.5,-5.5) AD32(13.5,-5.5) AD33(14.5,-5.5) AD34(15.5,-5.5) AD35(16.5,-5.5) AD36(17.5,-5.5) AE1(-17.5,-6.5) AE2(-16.5,-6.5) AE3(-15.5,-6.5) AE4(-14.5,-6.5) AE5(-13.5,-6.5) AE6(-12.5,-6.5) AE7(-11.5,-6.5) AE8(-10.5,-6.5) AE9(-9.5,-6.5) AE10(-8.5,-6.5) AE11(-7.5,-6.5) AE12(-6.5,-6.5) AE13(-5.5,-6.5) AE14(-4.5,-6.5) AE15(-3.5,-6.5) AE16(-2.5,-6.5) AE17(-1.5,-6.5) AE18(-0.5,-6.5) AE19(0.5,-6.5) AE20(1.5,-6.5) AE21(2.5,-6.5) AE22(3.5,-6.5) AE23(4.5,-6.5) AE24(5.5,-6.5) AE25(6.5,-6.5) AE26(7.5,-6.5) AE27(8.5,-6.5) AE28(9.5,-6.5) AE29(10.5,-6.5) AE30(11.5,-6.5) AE31(12.5,-6.5) AE32(13.5,-6.5) AE33(14.5,-6.5) AE34(15.5,-6.5) AE35(16.5,-6.5) AE36(17.5,-6.5) AF1(-17.5,-7.5) AF2(-16.5,-7.5) AF3(-15.5,-7.5) AF4(-14.5,-7.5) AF5(-13.5,-7.5) AF6(-12.5,-7.5) AF7(-11.5,-7.5) AF8(-10.5,-7.5) AF9(-9.5,-7.5) AF10(-8.5,-7.5) AF11(-7.5,-7.5) AF12(-6.5,-7.5) AF13(-5.5,-7.5) AF14(-4.5,-7.5) AF15(-3.5,-7.5) AF16(-2.5,-7.5) AF17(-1.5,-7.5) AF18(-0.5,-7.5) AF19(0.5,-7.5) AF20(1.5,-7.5) AF21(2.5,-7.5) AF22(3.5,-7.5) AF23(4.5,-7.5) AF24(5.5,-7.5) AF25(6.5,-7.5) AF26(7.5,-7.5) AF27(8.5,-7.5) AF28(9.5,-7.5) AF29(10.5,-7.5) AF30(11.5,-7.5) AF31(12.5,-7.5) AF32(13.5,-7.5) AF33(14.5,-7.5) AF34(15.5,-7.5) AF35(16.5,-7.5) AF36(17.5,-7.5) AG1(-17.5,-8.5) AG2(-16.5,-8.5) AG3(-15.5,-8.5) AG4(-14.5,-8.5) AG5(-13.5,-8.5) AG6(-12.5,-8.5) AG7(-11.5,-8.5) AG8(-10.5,-8.5) AG9(-9.5,-8.5) AG10(-8.5,-8.5) AG11(-7.5,-8.5) AG12(-6.5,-8.5) AG13(-5.5,-8.5) AG14(-4.5,-8.5) AG15(-3.5,-8.5) AG16(-2.5,-8.5) AG17(-1.5,-8.5) AG18(-0.5,-8.5) AG19(0.5,-8.5) AG20(1.5,-8.5) AG21(2.5,-8.5) AG22(3.5,-8.5) AG23(4.5,-8.5) AG24(5.5,-8.5) AG25(6.5,-8.5) AG26(7.5,-8.5) AG27(8.5,-8.5) AG28(9.5,-8.5) AG29(10.5,-8.5) AG30(11.5,-8.5) AG31(12.5,-8.5) AG32(13.5,-8.5) AG33(14.5,-8.5) AG34(15.5,-8.5) AG35(16.5,-8.5) AG36(17.5,-8.5) AH1(-17.5,-9.5) AH2(-16.5,-9.5) AH3(-15.5,-9.5) AH4(-14.5,-9.5) AH5(-13.5,-9.5) AH6(-12.5,-9.5) AH7(-11.5,-9.5) AH8(-10.5,-9.5) AH9(-9.5,-9.5) AH10(-8.5,-9.5) AH11(-7.5,-9.5) AH12(-6.5,-9.5) AH13(-5.5,-9.5) AH14(-4.5,-9.5) AH15(-3.5,-9.5) AH16(-2.5,-9.5) AH17(-1.5,-9.5) AH18(-0.5,-9.5) AH19(0.5,-9.5) AH20(1.5,-9.5) AH21(2.5,-9.5) AH22(3.5,-9.5) AH23(4.5,-9.5) AH24(5.5,-9.5) AH25(6.5,-9.5) AH26(7.5,-9.5) AH27(8.5,-9.5) AH28(9.5,-9.5) AH29(10.5,-9.5) AH30(11.5,-9.5) AH31(12.5,-9.5) AH32(13.5,-9.5) AH33(14.5,-9.5) AH34(15.5,-9.5) AH35(16.5,-9.5) AH36(17.5,-9.5) AJ1(-17.5,-10.5) AJ2(-16.5,-10.5) AJ3(-15.5,-10.5) AJ4(-14.5,-10.5) AJ5(-13.5,-10.5) AJ6(-12.5,-10.5) AJ7(-11.5,-10.5) AJ8(-10.5,-10.5) AJ9(-9.5,-10.5) AJ10(-8.5,-10.5) AJ11(-7.5,-10.5) AJ12(-6.5,-10.5) AJ13(-5.5,-10.5) AJ14(-4.5,-10.5) AJ15(-3.5,-10.5) AJ16(-2.5,-10.5) AJ17(-1.5,-10.5) AJ18(-0.5,-10.5) AJ19(0.5,-10.5) AJ20(1.5,-10.5) AJ21(2.5,-10.5) AJ22(3.5,-10.5) AJ23(4.5,-10.5) AJ24(5.5,-10.5) AJ25(6.5,-10.5) AJ26(7.5,-10.5) AJ27(8.5,-10.5) AJ28(9.5,-10.5) AJ29(10.5,-10.5) AJ30(11.5,-10.5) AJ31(12.5,-10.5) AJ32(13.5,-10.5) AJ33(14.5,-10.5) AJ34(15.5,-10.5) AJ35(16.5,-10.5) AJ36(17.5,-10.5) AK1(-17.5,-11.5) AK2(-16.5,-11.5) AK3(-15.5,-11.5) AK4(-14.5,-11.5) AK5(-13.5,-11.5) AK6(-12.5,-11.5) AK7(-11.5,-11.5) AK8(-10.5,-11.5) AK9(-9.5,-11.5) AK10(-8.5,-11.5) AK11(-7.5,-11.5) AK12(-6.5,-11.5) AK13(-5.5,-11.5) AK14(-4.5,-11.5) AK15(-3.5,-11.5) AK16(-2.5,-11.5) AK17(-1.5,-11.5) AK18(-0.5,-11.5) AK19(0.5,-11.5) AK20(1.5,-11.5) AK21(2.5,-11.5) AK22(3.5,-11.5) AK23(4.5,-11.5) AK24(5.5,-11.5) AK25(6.5,-11.5) AK26(7.5,-11.5) AK27(8.5,-11.5) AK28(9.5,-11.5) AK29(10.5,-11.5) AK30(11.5,-11.5) AK31(12.5,-11.5) AK32(13.5,-11.5) AK33(14.5,-11.5) AK34(15.5,-11.5) AK35(16.5,-11.5) AK36(17.5,-11.5) AL1(-17.5,-12.5) AL2(-16.5,-12.5) AL3(-15.5,-12.5) AL4(-14.5,-12.5) AL5(-13.5,-12.5) AL6(-12.5,-12.5) AL7(-11.5,-12.5) AL8(-10.5,-12.5) AL9(-9.5,-12.5) AL10(-8.5,-12.5) AL11(-7.5,-12.5) AL12(-6.5,-12.5) AL13(-5.5,-12.5) AL14(-4.5,-12.5) AL15(-3.5,-12.5) AL16(-2.5,-12.5) AL17(-1.5,-12.5) AL18(-0.5,-12.5) AL19(0.5,-12.5) AL20(1.5,-12.5) AL21(2.5,-12.5) AL22(3.5,-12.5) AL23(4.5,-12.5) AL24(5.5,-12.5) AL25(6.5,-12.5) AL26(7.5,-12.5) AL27(8.5,-12.5) AL28(9.5,-12.5) AL29(10.5,-12.5) AL30(11.5,-12.5) AL31(12.5,-12.5) AL32(13.5,-12.5) AL33(14.5,-12.5) AL34(15.5,-12.5) AL35(16.5,-12.5) AL36(17.5,-12.5) AM1(-17.5,-13.5) AM2(-16.5,-13.5) AM3(-15.5,-13.5) AM4(-14.5,-13.5) AM5(-13.5,-13.5) AM6(-12.5,-13.5) AM7(-11.5,-13.5) AM8(-10.5,-13.5) AM9(-9.5,-13.5) AM10(-8.5,-13.5) AM11(-7.5,-13.5) AM12(-6.5,-13.5) AM13(-5.5,-13.5) AM14(-4.5,-13.5) AM15(-3.5,-13.5) AM16(-2.5,-13.5) AM17(-1.5,-13.5) AM18(-0.5,-13.5) AM19(0.5,-13.5) AM20(1.5,-13.5) AM21(2.5,-13.5) AM22(3.5,-13.5) AM23(4.5,-13.5) AM24(5.5,-13.5) AM25(6.5,-13.5) AM26(7.5,-13.5) AM27(8.5,-13.5) AM28(9.5,-13.5) AM29(10.5,-13.5) AM30(11.5,-13.5) AM31(12.5,-13.5) AM32(13.5,-13.5) AM33(14.5,-13.5) AM34(15.5,-13.5) AM35(16.5,-13.5) AM36(17.5,-13.5) AN1(-17.5,-14.5) AN2(-16.5,-14.5) AN3(-15.5,-14.5) AN4(-14.5,-14.5) AN5(-13.5,-14.5) AN6(-12.5,-14.5) AN7(-11.5,-14.5) AN8(-10.5,-14.5) AN9(-9.5,-14.5) AN10(-8.5,-14.5) AN11(-7.5,-14.5) AN12(-6.5,-14.5) AN13(-5.5,-14.5) AN14(-4.5,-14.5) AN15(-3.5,-14.5) AN16(-2.5,-14.5) AN17(-1.5,-14.5) AN18(-0.5,-14.5) AN19(0.5,-14.5) AN20(1.5,-14.5) AN21(2.5,-14.5) AN22(3.5,-14.5) AN23(4.5,-14.5) AN24(5.5,-14.5) AN25(6.5,-14.5) AN26(7.5,-14.5) AN27(8.5,-14.5) AN28(9.5,-14.5) AN29(10.5,-14.5) AN30(11.5,-14.5) AN31(12.5,-14.5) AN32(13.5,-14.5) AN33(14.5,-14.5) AN34(15.5,-14.5) AN35(16.5,-14.5) AN36(17.5,-14.5) AP1(-17.5,-15.5) AP2(-16.5,-15.5) AP3(-15.5,-15.5) AP4(-14.5,-15.5) AP5(-13.5,-15.5) AP6(-12.5,-15.5) AP7(-11.5,-15.5) AP8(-10.5,-15.5) AP9(-9.5,-15.5) AP10(-8.5,-15.5) AP11(-7.5,-15.5) AP12(-6.5,-15.5) AP13(-5.5,-15.5) AP14(-4.5,-15.5) AP15(-3.5,-15.5) AP16(-2.5,-15.5) AP17(-1.5,-15.5) AP18(-0.5,-15.5) AP19(0.5,-15.5) AP20(1.5,-15.5) AP21(2.5,-15.5) AP22(3.5,-15.5) AP23(4.5,-15.5) AP24(5.5,-15.5) AP25(6.5,-15.5) AP26(7.5,-15.5) AP27(8.5,-15.5) AP28(9.5,-15.5) AP29(10.5,-15.5) AP30(11.5,-15.5) AP31(12.5,-15.5) AP32(13.5,-15.5) AP33(14.5,-15.5) AP34(15.5,-15.5) AP35(16.5,-15.5) AP36(17.5,-15.5) AR1(-17.5,-16.5) AR2(-16.5,-16.5) AR3(-15.5,-16.5) AR4(-14.5,-16.5) AR5(-13.5,-16.5) AR6(-12.5,-16.5) AR7(-11.5,-16.5) AR8(-10.5,-16.5) AR9(-9.5,-16.5) AR10(-8.5,-16.5) AR11(-7.5,-16.5) AR12(-6.5,-16.5) AR13(-5.5,-16.5) AR14(-4.5,-16.5) AR15(-3.5,-16.5) AR16(-2.5,-16.5) AR17(-1.5,-16.5) AR18(-0.5,-16.5) AR19(0.5,-16.5) AR20(1.5,-16.5) AR21(2.5,-16.5) AR22(3.5,-16.5) AR23(4.5,-16.5) AR24(5.5,-16.5) AR25(6.5,-16.5) AR26(7.5,-16.5) AR27(8.5,-16.5) AR28(9.5,-16.5) AR29(10.5,-16.5) AR30(11.5,-16.5) AR31(12.5,-16.5) AR32(13.5,-16.5) AR33(14.5,-16.5) AR34(15.5,-16.5) AR35(16.5,-16.5) AR36(17.5,-16.5) AT1(-17.5,-17.5) AT2(-16.5,-17.5) AT3(-15.5,-17.5) AT4(-14.5,-17.5) AT5(-13.5,-17.5) AT6(-12.5,-17.5) AT7(-11.5,-17.5) AT8(-10.5,-17.5) AT9(-9.5,-17.5) AT10(-8.5,-17.5) AT11(-7.5,-17.5) AT12(-6.5,-17.5) AT13(-5.5,-17.5) AT14(-4.5,-17.5) AT15(-3.5,-17.5) AT16(-2.5,-17.5) AT17(-1.5,-17.5) AT18(-0.5,-17.5) AT19(0.5,-17.5) AT20(1.5,-17.5) AT21(2.5,-17.5) AT22(3.5,-17.5) AT23(4.5,-17.5) AT24(5.5,-17.5) AT25(6.5,-17.5) AT26(7.5,-17.5) AT27(8.5,-17.5) AT28(9.5,-17.5) AT29(10.5,-17.5) AT30(11.5,-17.5) AT31(12.5,-17.5) AT32(13.5,-17.5) AT33(14.5,-17.5) AT34(15.5,-17.5) AT35(16.5,-17.5) AT36(17.5,-17.5) B1(-17.5,16.5) B2(-16.5,16.5) B3(-15.5,16.5) B4(-14.5,16.5) B5(-13.5,16.5) B6(-12.5,16.5) B7(-11.5,16.5) B8(-10.5,16.5) B9(-9.5,16.5) B10(-8.5,16.5) B11(-7.5,16.5) B12(-6.5,16.5) B13(-5.5,16.5) B14(-4.5,16.5) B15(-3.5,16.5) B16(-2.5,16.5) B17(-1.5,16.5) B18(-0.5,16.5) B19(0.5,16.5) B20(1.5,16.5) B21(2.5,16.5) B22(3.5,16.5) B23(4.5,16.5) B24(5.5,16.5) B25(6.5,16.5) B26(7.5,16.5) B27(8.5,16.5) B28(9.5,16.5) B29(10.5,16.5) B30(11.5,16.5) B31(12.5,16.5) B32(13.5,16.5) B33(14.5,16.5) B34(15.5,16.5) B35(16.5,16.5) B36(17.5,16.5) C1(-17.5,15.5) C2(-16.5,15.5) C3(-15.5,15.5) C4(-14.5,15.5) C5(-13.5,15.5) C6(-12.5,15.5) C7(-11.5,15.5) C8(-10.5,15.5) C9(-9.5,15.5) C10(-8.5,15.5) C11(-7.5,15.5) C12(-6.5,15.5) C13(-5.5,15.5) C14(-4.5,15.5) C15(-3.5,15.5) C16(-2.5,15.5) C17(-1.5,15.5) C18(-0.5,15.5) C19(0.5,15.5) C20(1.5,15.5) C21(2.5,15.5) C22(3.5,15.5) C23(4.5,15.5) C24(5.5,15.5) C25(6.5,15.5) C26(7.5,15.5) C27(8.5,15.5) C28(9.5,15.5) C29(10.5,15.5) C30(11.5,15.5) C31(12.5,15.5) C32(13.5,15.5) C33(14.5,15.5) C34(15.5,15.5) C35(16.5,15.5) C36(17.5,15.5) D1(-17.5,14.5) D2(-16.5,14.5) D3(-15.5,14.5) D4(-14.5,14.5) D5(-13.5,14.5) D6(-12.5,14.5) D7(-11.5,14.5) D8(-10.5,14.5) D9(-9.5,14.5) D10(-8.5,14.5) D11(-7.5,14.5) D12(-6.5,14.5) D13(-5.5,14.5) D14(-4.5,14.5) D15(-3.5,14.5) D16(-2.5,14.5) D17(-1.5,14.5) D18(-0.5,14.5) D19(0.5,14.5) D20(1.5,14.5) D21(2.5,14.5) D22(3.5,14.5) D23(4.5,14.5) D24(5.5,14.5) D25(6.5,14.5) D26(7.5,14.5) D27(8.5,14.5) D28(9.5,14.5) D29(10.5,14.5) D30(11.5,14.5) D31(12.5,14.5) D32(13.5,14.5) D33(14.5,14.5) D34(15.5,14.5) D35(16.5,14.5) D36(17.5,14.5) E1(-17.5,13.5) E2(-16.5,13.5) E3(-15.5,13.5) E4(-14.5,13.5) E5(-13.5,13.5) E6(-12.5,13.5) E7(-11.5,13.5) E8(-10.5,13.5) E9(-9.5,13.5) E10(-8.5,13.5) E11(-7.5,13.5) E12(-6.5,13.5) E13(-5.5,13.5) E14(-4.5,13.5) E15(-3.5,13.5) E16(-2.5,13.5) E17(-1.5,13.5) E18(-0.5,13.5) E19(0.5,13.5) E20(1.5,13.5) E21(2.5,13.5) E22(3.5,13.5) E23(4.5,13.5) E24(5.5,13.5) E25(6.5,13.5) E26(7.5,13.5) E27(8.5,13.5) E28(9.5,13.5) E29(10.5,13.5) E30(11.5,13.5) E31(12.5,13.5) E32(13.5,13.5) E33(14.5,13.5) E34(15.5,13.5) E35(16.5,13.5) E36(17.5,13.5) F1(-17.5,12.5) F2(-16.5,12.5) F3(-15.5,12.5) F4(-14.5,12.5) F5(-13.5,12.5) F6(-12.5,12.5) F7(-11.5,12.5) F8(-10.5,12.5) F9(-9.5,12.5) F10(-8.5,12.5) F11(-7.5,12.5) F12(-6.5,12.5) F13(-5.5,12.5) F14(-4.5,12.5) F15(-3.5,12.5) F16(-2.5,12.5) F17(-1.5,12.5) F18(-0.5,12.5) F19(0.5,12.5) F20(1.5,12.5) F21(2.5,12.5) F22(3.5,12.5) F23(4.5,12.5) F24(5.5,12.5) F25(6.5,12.5) F26(7.5,12.5) F27(8.5,12.5) F28(9.5,12.5) F29(10.5,12.5) F30(11.5,12.5) F31(12.5,12.5) F32(13.5,12.5) F33(14.5,12.5) F34(15.5,12.5) F35(16.5,12.5) F36(17.5,12.5) G1(-17.5,11.5) G2(-16.5,11.5) G3(-15.5,11.5) G4(-14.5,11.5) G5(-13.5,11.5) G6(-12.5,11.5) G7(-11.5,11.5) G8(-10.5,11.5) G9(-9.5,11.5) G10(-8.5,11.5) G11(-7.5,11.5) G12(-6.5,11.5) G13(-5.5,11.5) G14(-4.5,11.5) G15(-3.5,11.5) G16(-2.5,11.5) G17(-1.5,11.5) G18(-0.5,11.5) G19(0.5,11.5) G20(1.5,11.5) G21(2.5,11.5) G22(3.5,11.5) G23(4.5,11.5) G24(5.5,11.5) G25(6.5,11.5) G26(7.5,11.5) G27(8.5,11.5) G28(9.5,11.5) G29(10.5,11.5) G30(11.5,11.5) G31(12.5,11.5) G32(13.5,11.5) G33(14.5,11.5) G34(15.5,11.5) G35(16.5,11.5) G36(17.5,11.5) H1(-17.5,10.5) H2(-16.5,10.5) H3(-15.5,10.5) H4(-14.5,10.5) H5(-13.5,10.5) H6(-12.5,10.5) H7(-11.5,10.5) H8(-10.5,10.5) H9(-9.5,10.5) H10(-8.5,10.5) H11(-7.5,10.5) H12(-6.5,10.5) H13(-5.5,10.5) H14(-4.5,10.5) H15(-3.5,10.5) H16(-2.5,10.5) H17(-1.5,10.5) H18(-0.5,10.5) H19(0.5,10.5) H20(1.5,10.5) H21(2.5,10.5) H22(3.5,10.5) H23(4.5,10.5) H24(5.5,10.5) H25(6.5,10.5) H26(7.5,10.5) H27(8.5,10.5) H28(9.5,10.5) H29(10.5,10.5) H30(11.5,10.5) H31(12.5,10.5) H32(13.5,10.5) H33(14.5,10.5) H34(15.5,10.5) H35(16.5,10.5) H36(17.5,10.5) J1(-17.5,9.5) J2(-16.5,9.5) J3(-15.5,9.5) J4(-14.5,9.5) J5(-13.5,9.5) J6(-12.5,9.5) J7(-11.5,9.5) J8(-10.5,9.5) J9(-9.5,9.5) J10(-8.5,9.5) J11(-7.5,9.5) J12(-6.5,9.5) J13(-5.5,9.5) J14(-4.5,9.5) J15(-3.5,9.5) J16(-2.5,9.5) J17(-1.5,9.5) J18(-0.5,9.5) J19(0.5,9.5) J20(1.5,9.5) J21(2.5,9.5) J22(3.5,9.5) J23(4.5,9.5) J24(5.5,9.5) J25(6.5,9.5) J26(7.5,9.5) J27(8.5,9.5) J28(9.5,9.5) J29(10.5,9.5) J30(11.5,9.5) J31(12.5,9.5) J32(13.5,9.5) J33(14.5,9.5) J34(15.5,9.5) J35(16.5,9.5) J36(17.5,9.5) K1(-17.5,8.5) K2(-16.5,8.5) K3(-15.5,8.5) K4(-14.5,8.5) K5(-13.5,8.5) K6(-12.5,8.5) K7(-11.5,8.5) K8(-10.5,8.5) K9(-9.5,8.5) K10(-8.5,8.5) K11(-7.5,8.5) K12(-6.5,8.5) K13(-5.5,8.5) K14(-4.5,8.5) K15(-3.5,8.5) K16(-2.5,8.5) K17(-1.5,8.5) K18(-0.5,8.5) K19(0.5,8.5) K20(1.5,8.5) K21(2.5,8.5) K22(3.5,8.5) K23(4.5,8.5) K24(5.5,8.5) K25(6.5,8.5) K26(7.5,8.5) K27(8.5,8.5) K28(9.5,8.5) K29(10.5,8.5) K30(11.5,8.5) K31(12.5,8.5) K32(13.5,8.5) K33(14.5,8.5) K34(15.5,8.5) K35(16.5,8.5) K36(17.5,8.5) L1(-17.5,7.5) L2(-16.5,7.5) L3(-15.5,7.5) L4(-14.5,7.5) L5(-13.5,7.5) L6(-12.5,7.5) L7(-11.5,7.5) L8(-10.5,7.5) L9(-9.5,7.5) L10(-8.5,7.5) L11(-7.5,7.5) L12(-6.5,7.5) L13(-5.5,7.5) L14(-4.5,7.5) L15(-3.5,7.5) L16(-2.5,7.5) L17(-1.5,7.5) L18(-0.5,7.5) L19(0.5,7.5) L20(1.5,7.5) L21(2.5,7.5) L22(3.5,7.5) L23(4.5,7.5) L24(5.5,7.5) L25(6.5,7.5) L26(7.5,7.5) L27(8.5,7.5) L28(9.5,7.5) L29(10.5,7.5) L30(11.5,7.5) L31(12.5,7.5) L32(13.5,7.5) L33(14.5,7.5) L34(15.5,7.5) L35(16.5,7.5) L36(17.5,7.5) M1(-17.5,6.5) M2(-16.5,6.5) M3(-15.5,6.5) M4(-14.5,6.5) M5(-13.5,6.5) M6(-12.5,6.5) M7(-11.5,6.5) M8(-10.5,6.5) M9(-9.5,6.5) M10(-8.5,6.5) M11(-7.5,6.5) M12(-6.5,6.5) M13(-5.5,6.5) M14(-4.5,6.5) M15(-3.5,6.5) M16(-2.5,6.5) M17(-1.5,6.5) M18(-0.5,6.5) M19(0.5,6.5) M20(1.5,6.5) M21(2.5,6.5) M22(3.5,6.5) M23(4.5,6.5) M24(5.5,6.5) M25(6.5,6.5) M26(7.5,6.5) M27(8.5,6.5) M28(9.5,6.5) M29(10.5,6.5) M30(11.5,6.5) M31(12.5,6.5) M32(13.5,6.5) M33(14.5,6.5) M34(15.5,6.5) M35(16.5,6.5) M36(17.5,6.5) N1(-17.5,5.5) N2(-16.5,5.5) N3(-15.5,5.5) N4(-14.5,5.5) N5(-13.5,5.5) N6(-12.5,5.5) N7(-11.5,5.5) N8(-10.5,5.5) N9(-9.5,5.5) N10(-8.5,5.5) N11(-7.5,5.5) N12(-6.5,5.5) N13(-5.5,5.5) N14(-4.5,5.5) N15(-3.5,5.5) N16(-2.5,5.5) N17(-1.5,5.5) N18(-0.5,5.5) N19(0.5,5.5) N20(1.5,5.5) N21(2.5,5.5) N22(3.5,5.5) N23(4.5,5.5) N24(5.5,5.5) N25(6.5,5.5) N26(7.5,5.5) N27(8.5,5.5) N28(9.5,5.5) N29(10.5,5.5) N30(11.5,5.5) N31(12.5,5.5) N32(13.5,5.5) N33(14.5,5.5) N34(15.5,5.5) N35(16.5,5.5) N36(17.5,5.5) P1(-17.5,4.5) P2(-16.5,4.5) P3(-15.5,4.5) P4(-14.5,4.5) P5(-13.5,4.5) P6(-12.5,4.5) P7(-11.5,4.5) P8(-10.5,4.5) P9(-9.5,4.5) P10(-8.5,4.5) P11(-7.5,4.5) P12(-6.5,4.5) P13(-5.5,4.5) P14(-4.5,4.5) P15(-3.5,4.5) P16(-2.5,4.5) P17(-1.5,4.5) P18(-0.5,4.5) P19(0.5,4.5) P20(1.5,4.5) P21(2.5,4.5) P22(3.5,4.5) P23(4.5,4.5) P24(5.5,4.5) P25(6.5,4.5) P26(7.5,4.5) P27(8.5,4.5) P28(9.5,4.5) P29(10.5,4.5) P30(11.5,4.5) P31(12.5,4.5) P32(13.5,4.5) P33(14.5,4.5) P34(15.5,4.5) P35(16.5,4.5) P36(17.5,4.5) R1(-17.5,3.5) R2(-16.5,3.5) R3(-15.5,3.5) R4(-14.5,3.5) R5(-13.5,3.5) R6(-12.5,3.5) R7(-11.5,3.5) R8(-10.5,3.5) R9(-9.5,3.5) R10(-8.5,3.5) R11(-7.5,3.5) R12(-6.5,3.5) R13(-5.5,3.5) R14(-4.5,3.5) R15(-3.5,3.5) R16(-2.5,3.5) R17(-1.5,3.5) R18(-0.5,3.5) R19(0.5,3.5) R20(1.5,3.5) R21(2.5,3.5) R22(3.5,3.5) R23(4.5,3.5) R24(5.5,3.5) R25(6.5,3.5) R26(7.5,3.5) R27(8.5,3.5) R28(9.5,3.5) R29(10.5,3.5) R30(11.5,3.5) R31(12.5,3.5) R32(13.5,3.5) R33(14.5,3.5) R34(15.5,3.5) R35(16.5,3.5) R36(17.5,3.5) T1(-17.5,2.5) T2(-16.5,2.5) T3(-15.5,2.5) T4(-14.5,2.5) T5(-13.5,2.5) T6(-12.5,2.5) T7(-11.5,2.5) T8(-10.5,2.5) T9(-9.5,2.5) T10(-8.5,2.5) T11(-7.5,2.5) T12(-6.5,2.5) T13(-5.5,2.5) T14(-4.5,2.5) T15(-3.5,2.5) T16(-2.5,2.5) T17(-1.5,2.5) T18(-0.5,2.5) T19(0.5,2.5) T20(1.5,2.5) T21(2.5,2.5) T22(3.5,2.5) T23(4.5,2.5) T24(5.5,2.5) T25(6.5,2.5) T26(7.5,2.5) T27(8.5,2.5) T28(9.5,2.5) T29(10.5,2.5) T30(11.5,2.5) T31(12.5,2.5) T32(13.5,2.5) T33(14.5,2.5) T34(15.5,2.5) T35(16.5,2.5) T36(17.5,2.5) U1(-17.5,1.5) U2(-16.5,1.5) U3(-15.5,1.5) U4(-14.5,1.5) U5(-13.5,1.5) U6(-12.5,1.5) U7(-11.5,1.5) U8(-10.5,1.5) U9(-9.5,1.5) U10(-8.5,1.5) U11(-7.5,1.5) U12(-6.5,1.5) U13(-5.5,1.5) U14(-4.5,1.5) U15(-3.5,1.5) U16(-2.5,1.5) U17(-1.5,1.5) U18(-0.5,1.5) U19(0.5,1.5) U20(1.5,1.5) U21(2.5,1.5) U22(3.5,1.5) U23(4.5,1.5) U24(5.5,1.5) U25(6.5,1.5) U26(7.5,1.5) U27(8.5,1.5) U28(9.5,1.5) U29(10.5,1.5) U30(11.5,1.5) U31(12.5,1.5) U32(13.5,1.5) U33(14.5,1.5) U34(15.5,1.5) U35(16.5,1.5) U36(17.5,1.5) V1(-17.5,0.5) V2(-16.5,0.5) V3(-15.5,0.5) V4(-14.5,0.5) V5(-13.5,0.5) V6(-12.5,0.5) V7(-11.5,0.5) V8(-10.5,0.5) V9(-9.5,0.5) V10(-8.5,0.5) V11(-7.5,0.5) V12(-6.5,0.5) V13(-5.5,0.5) V14(-4.5,0.5) V15(-3.5,0.5) V16(-2.5,0.5) V17(-1.5,0.5) V18(-0.5,0.5) V19(0.5,0.5) V20(1.5,0.5) V21(2.5,0.5) V22(3.5,0.5) V23(4.5,0.5) V24(5.5,0.5) V25(6.5,0.5) V26(7.5,0.5) V27(8.5,0.5) V28(9.5,0.5) V29(10.5,0.5) V30(11.5,0.5) V31(12.5,0.5) V32(13.5,0.5) V33(14.5,0.5) V34(15.5,0.5) V35(16.5,0.5) V36(17.5,0.5) W1(-17.5,-0.5) W2(-16.5,-0.5) W3(-15.5,-0.5) W4(-14.5,-0.5) W5(-13.5,-0.5) W6(-12.5,-0.5) W7(-11.5,-0.5) W8(-10.5,-0.5) W9(-9.5,-0.5) W10(-8.5,-0.5) W11(-7.5,-0.5) W12(-6.5,-0.5) W13(-5.5,-0.5) W14(-4.5,-0.5) W15(-3.5,-0.5) W16(-2.5,-0.5) W17(-1.5,-0.5) W18(-0.5,-0.5) W19(0.5,-0.5) W20(1.5,-0.5) W21(2.5,-0.5) W22(3.5,-0.5) W23(4.5,-0.5) W24(5.5,-0.5) W25(6.5,-0.5) W26(7.5,-0.5) W27(8.5,-0.5) W28(9.5,-0.5) W29(10.5,-0.5) W30(11.5,-0.5) W31(12.5,-0.5) W32(13.5,-0.5) W33(14.5,-0.5) W34(15.5,-0.5) W35(16.5,-0.5) W36(17.5,-0.5) Y1(-17.5,-1.5) Y2(-16.5,-1.5) Y3(-15.5,-1.5) Y4(-14.5,-1.5) Y5(-13.5,-1.5) Y6(-12.5,-1.5) Y7(-11.5,-1.5) Y8(-10.5,-1.5) Y9(-9.5,-1.5) Y10(-8.5,-1.5) Y11(-7.5,-1.5) Y12(-6.5,-1.5) Y13(-5.5,-1.5) Y14(-4.5,-1.5) Y15(-3.5,-1.5) Y16(-2.5,-1.5) Y17(-1.5,-1.5) Y18(-0.5,-1.5) Y19(0.5,-1.5) Y20(1.5,-1.5) Y21(2.5,-1.5) Y22(3.5,-1.5) Y23(4.5,-1.5) Y24(5.5,-1.5) Y25(6.5,-1.5) Y26(7.5,-1.5) Y27(8.5,-1.5) Y28(9.5,-1.5) Y29(10.5,-1.5) Y30(11.5,-1.5) Y31(12.5,-1.5) Y32(13.5,-1.5) Y33(14.5,-1.5) Y34(15.5,-1.5) Y35(16.5,-1.5) Y36(17.5,-1.5)
  round 1 smd mask+0.5: FID1(-19.65,-19.65) FID2(19.65,19.65)
Top Layer keep-out:
  region: -18.641,-19.65 -18.676,-19.389 -18.777,-19.146 -18.937,-18.937 -19.146,-18.777 -19.389,-18.676 -19.65,-18.641 -19.911,-18.676 -20.154,-18.777 -20.363,-18.937 -20.523,-19.146 -20.624,-19.389 -20.659,-19.65 -20.624,-19.911 -20.523,-20.154 -20.363,-20.363 -20.154,-20.523 -19.911,-20.624 -19.65,-20.659 -19.389,-20.624 -19.146,-20.523 -18.937,-20.363 -18.777,-20.154 -18.676,-19.911
  region: 20.659,19.65 20.624,19.911 20.523,20.154 20.363,20.363 20.154,20.523 19.911,20.624 19.65,20.659 19.389,20.624 19.146,20.523 18.937,20.363 18.777,20.154 18.676,19.911 18.641,19.65 18.676,19.389 18.777,19.146 18.937,18.937 19.146,18.777 19.389,18.676 19.65,18.641 19.911,18.676 20.154,18.777 20.363,18.937 20.523,19.146 20.624,19.389
Top Overlay:
  circle w0.25: c-19.4,17.5 r0.125
  lines w0.2: -18.8,17.8 -17.8,18.8 ; -18.8,18 -18,18.8 ; -18.8,18.2 -18.2,18.8 ; -18.8,18.4 -18.4,18.8 ; -18.8,18.6 -18.6,18.8 ; -18.8,-18.8 -18.8,18.8 18.8,18.8 18.8,-18.8 -18.8,-18.8
Top Assy:
  lines w0.1: -18.75,17.75 -17.75,18.75 ; -18.75,17.85 -17.85,18.75 ; -18.75,17.95 -17.95,18.75 ; -18.75,18.05 -18.05,18.75 ; -18.75,18.15 -18.15,18.75 ; -18.75,18.25 -18.25,18.75 ; -18.75,18.35 -18.35,18.75 ; -18.75,18.45 -18.45,18.75 ; -18.75,18.55 -18.55,18.75 ; -18.75,18.65 -18.65,18.75 ; -18.75,-18.75 -18.75,18.75 18.75,18.75 18.75,-18.75 -18.75,-18.75
  text ".Designator" at 0,0 h1
Top 3D:
  lines w0.05: -18.75,-18.75 -18.75,18.75 18.75,18.75 18.75,-18.75 -18.75,-18.75
Top Cortyards:
  circle w0.05: c0,0 r0.35
  lines w0.05: -0.5,0 0.5,0 ; 0,-0.5 0,0.5 ; -20.8,-20.8 -20.8,20.8 20.8,20.8 20.8,-20.8 -20.8,-20.8
3D body: height 1.4, standoff 0, extent -18.775,-18.775 18.775,18.775